# EAGLE library part TA7757 (library ic)
FM / AM IF System (3V USE) http://www.maxdat.eu/_data/15=Letoltesek/Tuner%20Ic/TA7757P%20-%20AM-FM%20IF%20System.pdf
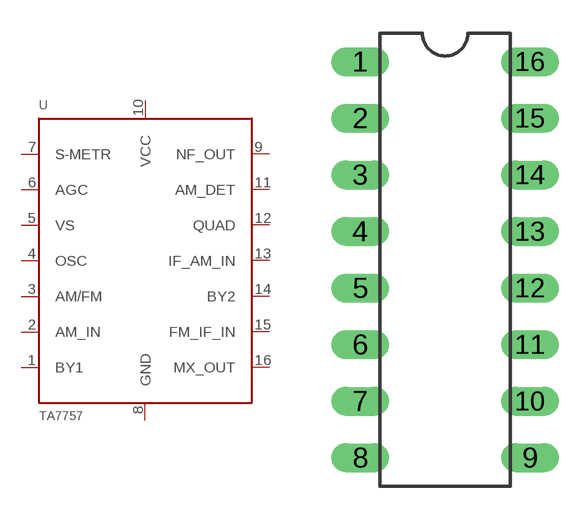
[diagram p23: symbol with the pads of DIL16; footprint DIL16]

Designator prefix -

## TA7757  [DIL16]
1  BY1
2  AM_IN
3  AM/FM
4  OSC
5  VS
6  AGC
7  S-METR
8  GND
9  NF_OUT
10  VCC
11  AM_DET
12  QUAD
13  IF_AM_IN
14  BY2
15  FM_IF_IN
16  MX_OUT

## Footprint DIL16 (pad centres in mm)
drill 0.8 pad 1.27 long: 1 -3.81,8.89; 2 -3.81,6.35; 3 -3.81,3.81; 4 -3.81,1.27; 5 -3.81,-1.27; 6 -3.81,-3.81; 7 -3.81,-6.35; 8 -3.81,-8.89; 9 3.81,-8.89; 10 3.81,-6.35; 11 3.81,-3.81; 12 3.81,-1.27; 13 3.81,1.27; 14 3.81,3.81; 15 3.81,6.35; 16 3.81,8.89